# Altium footprint library Orion Sleep - Control Board - Rev 2.PcbLib: 102 footprints (part 2 of 7)
Each footprint in its own frame and in the unit in brackets; x right, y up, seen from the top. Pads: shape width x height; smd on the part's side, far side on the other; paste and mask are expansions set on the pad; w line width, h text height; cw(c..) or ccw(c..) is an arc to the next point about the centre after c.
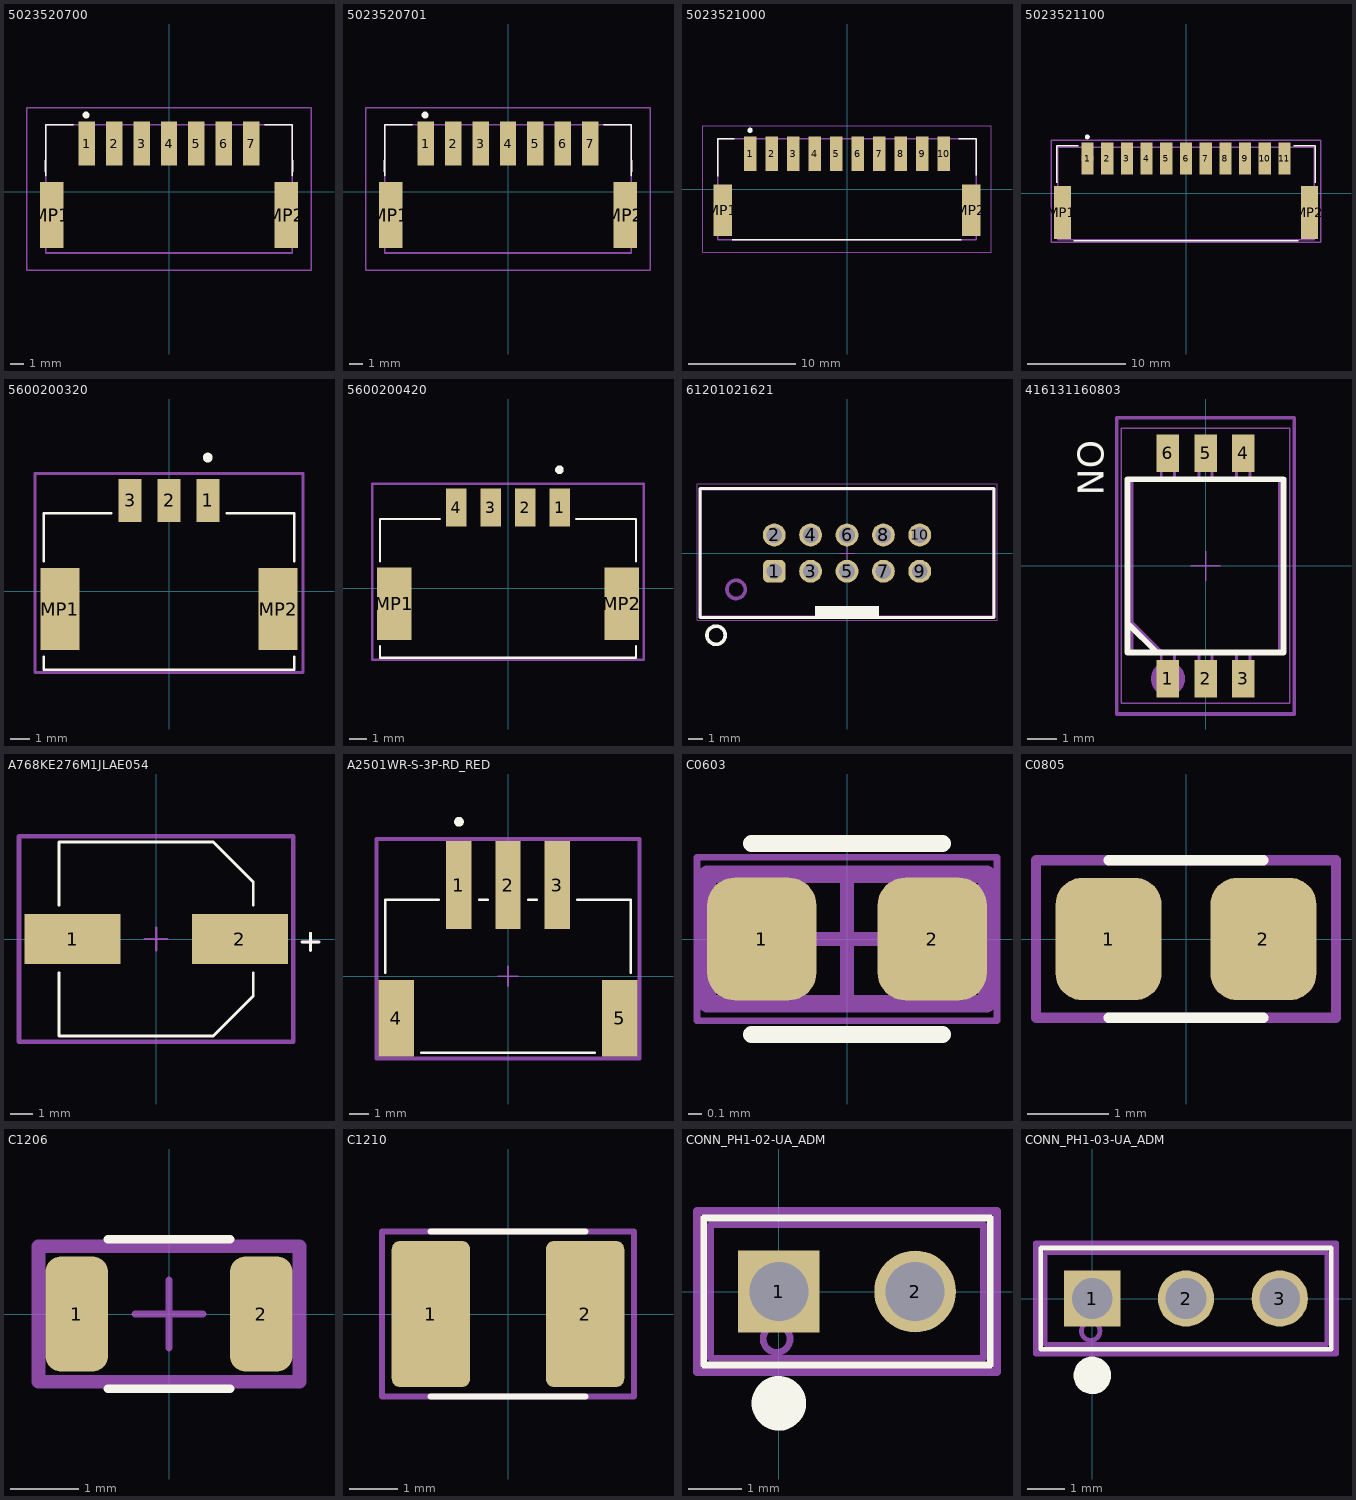
[diagram p1: the footprints below, top view; thin cyan lines are the x and y axes]

## 5023520700 [mm]
pads (9):
  rect 1.2x3.2 smd: 1(-6,3.53) 2(-4,3.53) 3(-2,3.53) 4(0,3.53) 5(2,3.53) 6(4,3.53) 7(6,3.53)
  rect 1.7x4.8 smd: MP1(-8.55,-1.69) MP2(8.55,-1.69)
Top Overlay:
  circle w0.3: c-6.053,5.615 r0.1
  lines w0.127: -9,1.2 -9,4.9 -7,4.9 ; 7,4.9 9,4.9 9,1.2
  lines w0.15: -9,1.5 -9,2.3 ; 9,1.5 9,2.3
Top Assembly:
  circle w0.127: c-6,3.53 r0.266
  lines w0.127: -9,-4.462 -3.812,-4.462 9,-4.462 9,4.9 -7.65,4.9 -9,4.9 -9,-4.462
  text ".Designator" at -7.618,-0.508 h1.52
Top Courtyard:
  lines w0.1: -10.4,-5.7 -10.4,6.13 10.4,6.13 10.4,-5.7 -10.4,-5.7
3D body "502352-0700.stp": height 6.41, standoff 0.01, extent -9,-4.48 9,4.92

## 5023520701 [mm]
pads (9):
  rect 1.2x3.2 smd: 1(-6,3.53) 2(-4,3.53) 3(-2,3.53) 4(0,3.53) 5(2,3.53) 6(4,3.53) 7(6,3.53)
  rect 1.7x4.8 smd: MP1(-8.55,-1.69) MP2(8.55,-1.69)
Top Overlay:
  circle w0.3: c-6.053,5.615 r0.1
  lines w0.127: -9,1.2 -9,4.9 -7,4.9 ; 7,4.9 9,4.9 9,1.2
  lines w0.15: -9,1.5 -9,2.3 ; 9,1.5 9,2.3
Top Assembly:
  circle w0.127: c-6,3.53 r0.266
  lines w0.127: -9,-4.462 -9,4.9 -7.65,4.9 9,4.9 9,-4.462 -3.812,-4.462 -9,-4.462
  text ".Designator" at -7.618,-0.508 h1.52
Top Courtyard:
  lines w0.1: -10.4,-5.7 10.4,-5.7 10.4,6.13 -10.4,6.13 -10.4,-5.7
3D body "502352-0700.stp": height 6.41, standoff 0.01, extent -9,-4.48 9,4.92

## 5023521000 [mm]
pads (12):
  rect 1.2x3.2 smd: 1(-9,3.265) 2(-7,3.265) 3(-5,3.265) 4(-3,3.265) 5(-1,3.265) 6(1,3.265) 7(3,3.265) 8(5,3.265) 9(7,3.265) 10(9,3.265)
  rect 1.7x4.8 smd: MP1(-11.55,-1.965) MP2(11.55,-1.965)
Top Overlay:
  circle w0.3: c-9.017,5.461 r0.1
  lines w0.127: -12,1.2 -12,4.665 -10.5,4.665 ; -10.66,-4.735 10.645,-4.735 ; 10.4,4.665 12,4.665 12,1.3
Top Assembly:
  circle w0.127: c-9,3.265 r0.364
  lines w0.127: -12,-4.735 -12,4.665 12,4.665 12,-4.735 -12,-4.735
  text ".Designator" at -7.618,-0.508 h1.52
Top Courtyard:
  lines w0.1: -13.4,-5.865 -13.4,5.865 13.4,5.865 13.4,-5.865 -13.4,-5.865
3D body "502352-1000.stp": height 6.4, standoff 0, extent -12,-4.7 12,4.7

## 5023521100 [mil] "CONN HEADER SMD R/A 11POS 2MM"
pads (13):
  rect 49x128 smd: 1(-393.7,138.94) 2(-314.96,138.94) 3(-236.22,138.94) 4(-157.48,138.94) 5(-78.74,138.94) 6(0,138.94) 7(78.74,138.94) 8(157.48,138.94) 9(236.22,138.94) 10(314.96,138.94) 11(393.7,138.94)
  rect 69x211 smd: MP1(-494.09,-76.81) MP2(494.09,-76.81)
Top Overlay:
  circle w11.81: c-394.37,225.39 r3.94
  lines w5: -517,41.79 -517,190 -431.3,190 ; -448.99,-190 448.99,-190 ; 431.3,190 517,190 517,41.79
Top Assembly:
  circle w20: c-393.7,138.94 r15
  lines w5: -512,-185 512,-185 512,185 -512,185 -512,-185
  text ".Designator" at -299.9,-19.99 h60
Top Courtyard:
  lines w6: -538.59,-195 -538.59,212.94 538.59,212.94 538.59,-195 -538.59,-195
3D body "5023521100.stp": height 252.47, standoff 0.5, extent -511.81,-192.91 511.81,177.17

## 5600200320 [mm] "CONN HEADER SMD 3POS 2MM"
height 8
pads (5):
  rect 1.2x2.2 smd: 1(2,4.679) 2(0,4.679) 3(-2,4.679)
  rect 2x4.2 smd: MP1(-5.6,-0.901) MP2(5.6,-0.901)
Top Overlay:
  circle w0.3: c1.983,6.875 r0.1
  lines w0.127: -6.426,-3.355 -6.426,-4.026 6.426,-4.026 6.426,-3.355 ; -6.426,1.553 -6.426,4.026 -2.955,4.026 ; 2.955,4.026 6.426,4.026 6.426,1.553
Top Assembly:
  circle w0.127: c2,4.679 r0.182
  lines w0.127: -6.883,-4.153 6.883,-4.153 6.883,6.063 -6.883,6.063 -6.883,-4.153
  text ".Designator" at -7.618,-0.508 h1.52
Top Courtyard:
  lines w0.152: -6.883,-4.153 -6.883,6.063 6.883,6.063 6.883,-4.153 -6.883,-4.153
3D body "5600200320.stp": height 8.01, standoff 0.01, extent -6.3,-3.899 6.3,5.251

## 5600200420 [mm] "CONN HEADER SMD 4POS 2MM"
height 8
pads (6):
  rect 1.2x2.2 smd: 1(3,4.679) 2(1,4.679) 3(-1,4.679) 4(-3,4.679)
  rect 2x4.2 smd: MP1(-6.6,-0.901) MP2(6.6,-0.901)
Top Overlay:
  circle w0.3: c2.983,6.875 r0.1
  lines w0.127: -7.429,-3.355 -7.429,-4.026 7.429,-4.026 7.429,-3.355 ; -7.429,1.553 -7.429,4.026 -3.955,4.026 ; 3.955,4.026 7.429,4.026 7.429,1.553
Top Assembly:
  circle w0.127: c3,4.75 r0.221
  lines w0.127: -7.883,-4.153 -7.883,6.063 7.883,6.063 7.883,-4.153 -7.883,-4.153
  text ".Designator" at -7.618,-0.508 h1.52
Top Courtyard:
  lines w0.152: -7.883,-4.153 7.883,-4.153 7.883,6.063 -7.883,6.063 -7.883,-4.153
3D body "5600200420.stp": height 8.01, standoff 0.01, extent -7.3,-3.899 7.3,5.251

## 61201021621 [mm] "10 pins, straight, gold plating"
height 9.1
pads (10):
  rrect50% 1.6x1.6 hole 1.1 mask+0.05: 1(-5.08,-1.27)
  round 1.6 hole 1.1 mask+0.05: 2(-5.08,1.27) 3(-2.54,-1.27) 4(-2.54,1.27) 5(0,-1.27) 6(0,1.27) 7(2.54,-1.27) 8(2.54,1.27) 9(5.08,-1.27) 10(5.08,1.27)
Top Overlay:
  circle w0.254: c-9.147,-5.74 r0.635
  rectangle: -2.25,-4.5 2.25,-3.7
  lines w0.2: -10.28,-4.5 10.28,-4.5 10.28,4.5 -10.28,4.5 -10.28,-4.5
Top Assembly:
  circle w0.254: c-7.747,-2.54 r0.635
  rectangle: -2.25,-4.425 2.25,-3.7
  lines w0.127: -10.18,-4.425 10.18,-4.425 10.18,4.425 -10.18,4.425 -10.18,-4.425
  text ".Designator" at -9.997,-0.666 h2
Top Component Outline:
  rectangle: -2.25,-4.425 2.25,-3.7
  lines w0.1: -10.18,-4.425 -10.18,4.425 10.18,4.425 10.18,-4.425 -10.18,-4.425
Top Courtyard:
  lines w0.05: -0.5,0 0.5,0 ; 0,-0.5 0,0.5 ; -10.48,-4.7 10.48,-4.7 10.48,4.85 -10.48,4.85 -10.48,-4.7
3D body "61201021621.stp": height 9.13, standoff -2.98, extent -10.18,-4.425 10.18,4.748

## 416131160803 [mm] "SMD Dip Switch, Small Compact, Raised Actuator, 3pin"
height 2.65
pads (6):
  rect 0.76x1.27 smd: 1(-1.27,-3.81) 2(0,-3.81) 3(1.27,-3.81) 4(1.27,3.81) 5(0,3.81) 6(-1.27,3.81)
Top Overlay:
  lines w0.2: -2.64,-1.925 -1.64,-2.925 ; -2.64,-2.925 -2.64,2.925 2.64,2.925 2.64,-2.925 -2.64,-2.925
  text "ON" at -4.318,4.24 h0.89
Top Assembly:
  circle w0.254: c-1.27,-3.81 r0.448
  lines w0.127: -3,-5 3,-5 3,5 -3,5 -3,-5
  text ".Designator" at -9.997,-0.666 h2
Top Component Outline:
  lines w0.1: -2.49,-1.9 -1.49,-2.9 ; -1.495,-2.9 -1.495,-4.32 -1.045,-4.32 -1.045,-2.9 ; -1.495,2.9 -1.495,4.32 -1.045,4.32 -1.045,2.9 ; -0.225,-2.9 -0.225,-4.32 0.225,-4.32 0.225,-2.9 ; -0.225,2.9 -0.225,4.32 0.225,4.32 0.225,2.9 ; 1.045,-2.9 1.045,-4.32 1.495,-4.32 1.495,-2.9 ; 1.045,2.9 1.045,4.32 1.495,4.32 1.495,2.9 ; -2.49,-2.9 2.49,-2.9 2.49,2.9 -2.49,2.9 -2.49,-2.9
  text "ON" at -2.07,1.6 h0.89
Top Courtyard:
  lines w0.05: -0.5,0 0.5,0 ; 0,-0.5 0,0.5 ; -2.84,-4.645 -2.84,4.645 2.84,4.645 2.84,-4.645 -2.84,-4.645
3D body "416131160803.stp": height 2.65, standoff 0, extent -2.49,-4.22 2.49,4.22

## A768KE276M1JLAE054 [mm] "Radial, Can - SMD  0.315\" Dia (8.00mm) 0.327\" L x 0.327\" W (8.30mm x 8.30mm)"
height 7
pads (2):
  rect 4.2x2.2 smd: 1(-3.65,0) 2(3.665,0)
Top Overlay:
  lines w0.127: -4.25,-1.475 -4.25,-4.25 2.5,-4.25 4.25,-2.5 4.25,-1.475 ; -4.25,1.475 -4.25,4.25 2.5,4.25 4.25,2.5 4.25,1.475 ; 6.375,-0.125 6.75,-0.125 7.125,-0.125 ; 6.75,-0.5 6.75,0.25
Top Assembly:
  lines w0.127: 6.375,-0.125 7.125,-0.125 ; 6.75,-0.5 6.75,0.25 ; -6,-4.5 6,-4.5 6,4.5 -6,4.5 -6,-4.5
  text ".Designator" at -4.998,-0.333 h1
Top Courtyard:
  lines w0.2: -6,-4.5 6,-4.5 6,4.5 -6,4.5 -6,-4.5
Top Component Center:
  lines w0.1: -0.5,0 0.5,0 ; 0,-0.5 0,0.5
3D body "Cap_A768KE276M1JLAE054_SMT_CAP_8MM3_8MM3.STEP": height 7, standoff 0, extent -4.6,-4.25 4.6,4.25

## A2501WR-S-3P-RD_RED [mm] "CONN HEADER SMD R/A 3POS 2.5MM"
pads (5):
  rect 1.3x4.5 smd: 1(-2.5,4.65) 2(0,4.65) 3(2.5,4.65)
  rect 1.8x3.9 smd: 4(-5.7,-2.15) 5(5.7,-2.15)
Top Overlay:
  circle w0.25: c-2.5,7.875 r0.125
  lines w0.127: -6.25,0.175 -6.25,3.9 -3.525,3.9 ; -4.425,-3.9 4.425,-3.9 ; -1.475,3.9 -1.025,3.9 ; 1.025,3.9 1.475,3.9 ; 3.525,3.9 6.25,3.9 6.25,0.175
Top Assembly:
  circle w0.25: c-2.5,6.3 r0.3
  lines w0.127: -6.7,-4.2 -6.7,7 6.7,7 6.7,-4.2 -6.7,-4.2
  text ".Designator" at -9.997,0.734 h2
Top Courtyard:
  lines w0.2: -6.7,-4.2 -6.7,7 6.7,7 6.7,-4.2 -6.7,-4.2
Top Component Center:
  lines w0.1: -0.5,0 0.5,0 ; 0,-0.5 0,0.5
3D body "Conn_JST_S3B-XH-SM4-TB_LF_SN_eec.STEP": height 6, standoff 0, extent -6.225,-3.9 6.225,6.1

## C0603 [mm] "Chip Capacitor, 2-Leads, Body 1.60x0.80mm"
height 0.87
pads (2):
  rrect50% 0.8x0.9 smd: 1(-0.625,0) 2(0.625,0)
Top Overlay:
  lines w0.127: -0.7,-0.7 0.7,-0.7 ; -0.7,0.7 0.7,0.7
Top Assembly:
  lines w0.127: -1.025,-0.475 -1.025,0.475 1.025,0.475 1.025,-0.475 -1.025,-0.475
  text ".Designator" at -2.499,-0.167 h0.5
Top Courtyard:
  lines w0.05: -1.1,-0.6 -1.1,0.6 1.1,0.6 1.1,-0.6 -1.1,-0.6
  lines w0.1: -0.475,0 0.475,0 ; 0,-0.475 0,0.475
3D body: height 0.87, standoff 0, extent -0.525,-0.475 0.525,0.475
3D body: height 0.87, standoff 0, extent -0.875,-0.475 -0.525,0.475
3D body: height 0.87, standoff 0, extent 0.525,-0.475 0.875,0.475

## C0805 [mm] "Ceramic Chip Capacitor; Body 2 x 1.2 mm (LxW typ)"
height 0.6
pads (2):
  rrect50% 1.3x1.5 smd: 1(-0.95,0) 2(0.95,0)
Top Overlay:
  lines w0.127: -0.95,-0.965 0.95,-0.965 ; -0.95,0.965 0.95,0.965
Top Assembly:
  lines w0.127: -1.84,-0.965 1.84,-0.965 1.84,0.965 -1.84,0.965 -1.84,-0.965
  text ".Designator" at -4.063,-0.271 h0.81
3D body "CAP0805.stp": height 0.78, standoff 0, extent -1,-0.625 1,0.625

## C1206 [mm]
pads (2):
  rrect50% 0.925x1.7 smd: 1(-1.362,0) 2(1.362,0)
Top Overlay:
  lines w0.127: -0.9,-1.1 0.9,-1.1 ; -0.9,1.1 0.9,1.1
Top Assembly:
  lines w0.127: -1.925,-1 -1.925,1 1.925,1 1.925,-1 -1.925,-1
  text ".Designator" at -4.998,-0.333 h1
Top Courtyard:
  lines w0.2: -1.925,-1 -1.925,1 1.925,1 1.925,-1 -1.925,-1
Top Component Center:
  lines w0.1: -0.5,0 0.5,0 ; 0,-0.5 0,0.5
3D body "Cap_Samsung_CL31B106KBHNNNE_eec.STEP": height 1.8, standoff 0, extent -1.6,-0.8 1.6,0.8

## C1210 [mm] "Ceramic Chip Capacitor; Body 3.2 x 2.5 mm (LxW typ)"
height 0.6
pads (2):
  rrect20% 1.62x3.01 smd: 1(-1.59,0) 2(1.59,0)
Top Overlay:
  lines w0.127: -1.6,-1.7 1.6,-1.7 ; -1.6,1.7 1.6,1.7
Top Assembly:
  lines w0.127: -2.6,-1.7 2.6,-1.7 2.6,1.7 -2.6,1.7 -2.6,-1.7
  text ".Designator" at -4.063,-0.271 h0.81
3D body "c1210c106k3pactu.stp": height 2.1, standoff 0, extent -1.7,-1.346 1.7,1.354

## CONN_PH1-02-UA_ADM [mil] "CONN HEADER VERT 2POS 2.54MM"
height 334.65
pads (2):
  rect 60x60 hole 43.31 paste-99999 mask+0: 1(0,0)
  round 60 hole 43.31 paste-99999 mask+0: 2(100,0)
Top Overlay:
  circle w20: c0,-82 r10
  lines w5: -55,-54 -55,54 155,54 155,-54 -55,-54
Top Assembly:
  circle w5: c-1.62,-34.76 r9.84
  lines w5: -50,-49 -50,49 150,49 150,-49 -50,-49
  text ".Designator" at -151.49,-16.66 h50
Top Courtyard:
  lines w6: -60,-59 160,-59 160,59 -60,59 -60,-59
3D body "PH1-02-UA.STEP": height 335.15, standoff -119.58, extent -50.28,-49.21 150,49.21

## CONN_PH1-03-UA_ADM [mil] "CONN HEADER VERT 3POS 2.54MM"
height 334.65
pads (3):
  rect 60x60 hole 43.31 paste-99999 mask+0: 1(0,0)
  round 60 hole 43.31 paste-99999 mask+0: 2(100,0) 3(200,0)
Top Overlay:
  circle w20: c0,-82 r10
  lines w5: -55,-54 -55,54 255,54 255,-54 -55,-54
Top Assembly:
  circle w5: c-1.62,-34.76 r9.84
  lines w5: -50,-49 -50,49 250,49 250,-49 -50,-49
  text ".Designator" at -151.49,-16.66 h50
Top Courtyard:
  lines w6: -60,-59 260,-59 260,59 -60,59 -60,-59
3D body "CONN_PH1-03-UA_ADM.step": height 335, standoff -200, extent -50,-49.02 250,49.02